# Altium footprint library controller_V1.01.PcbLib: 68 footprints (part 5 of 5)
Each footprint in its own frame and in the unit in brackets; x right, y up, seen from the top. Pads: shape width x height; smd on the part's side, far side on the other; paste and mask are expansions set on the pad; w line width, h text height; cw(c..) or ccw(c..) is an arc to the next point about the centre after c.
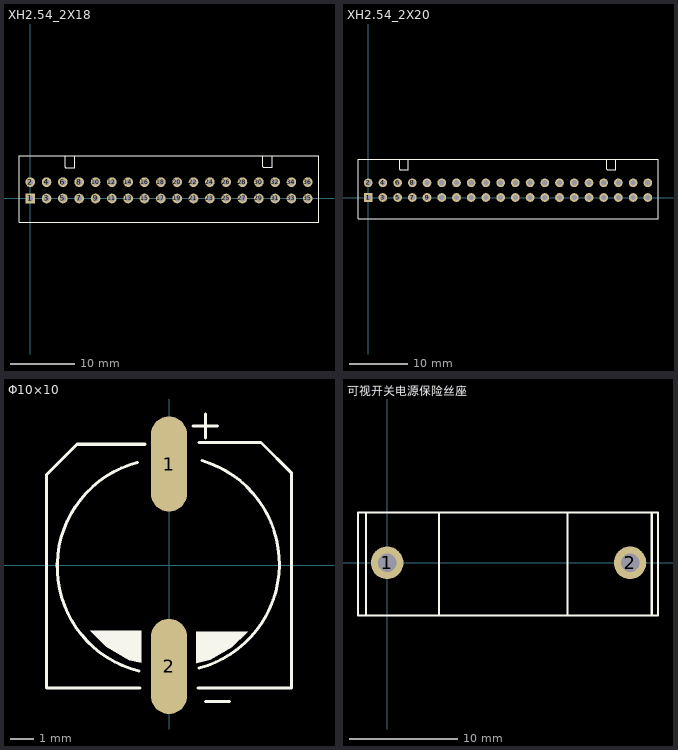
[diagram p4: the footprints below, top view; thin cyan lines are the x and y axes]

## XH2.54_2X18 [mm]
pads (36):
  rect 1.5x1.5 hole 0.9: 1(0,0)
  round 1.5 hole 0.9: 2(0,2.54) 3(2.54,0) 4(2.54,2.54) 5(5.08,0) 6(5.08,2.54) 7(7.62,0) 8(7.62,2.54) 9(10.16,0) 10(10.16,2.54) 11(12.7,0) 12(12.7,2.54) 13(15.24,0) 14(15.24,2.54) 15(17.78,0) 16(17.78,2.54) 17(20.32,0) 18(20.32,2.54) 19(22.86,0) 20(22.86,2.54) 21(25.4,0) 22(25.4,2.54) 23(27.94,0) 24(27.94,2.54) 25(30.48,0) 26(30.48,2.54) 27(33.02,0) 28(33.02,2.54) 29(35.56,0) 30(35.56,2.54) 31(38.1,0) 32(38.1,2.54) 33(40.64,0) 34(40.64,2.54) 35(43.18,0) 36(43.18,2.54)
Top Overlay:
  lines w0.127: 5.41,6.553 5.41,4.851 5.461,4.801 6.934,4.801 6.934,6.553 ; 36.17,6.629 36.17,4.928 36.22,4.877 37.694,4.877 37.694,6.629 ; -1.75,-3.68 -1.75,6.62 44.93,6.62 44.93,-3.68 -1.75,-3.68

## XH2.54_2X20 [mm]
pads (40):
  rect 1.5x1.5 hole 0.9: 1(0,0)
  round 1.5 hole 0.9: 2(0,2.54) 3(2.54,0) 4(2.54,2.54) 5(5.08,0) 6(5.08,2.54) 7(7.62,0) 8(7.62,2.54) 9(10.16,0) 10(10.16,2.54) 11(12.7,0) 12(12.7,2.54) 13(15.24,0) 14(15.24,2.54) 15(17.78,0) 16(17.78,2.54) 17(20.32,0) 18(20.32,2.54) 19(22.86,0) 20(22.86,2.54) 21(25.4,0) 22(25.4,2.54) 23(27.94,0) 24(27.94,2.54) 25(30.48,0) 26(30.48,2.54) 27(33.02,0) 28(33.02,2.54) 29(35.56,0) 30(35.56,2.54) 31(38.1,0) 32(38.1,2.54) 33(40.64,0) 34(40.64,2.54) 35(43.18,0) 36(43.18,2.54) 37(45.72,0) 38(45.72,2.54) 39(48.26,0) 40(48.26,2.54)
Top Overlay:
  lines w0.127: 5.41,6.553 5.41,4.851 5.461,4.801 6.934,4.801 6.934,6.553 ; 41.199,6.579 41.199,4.877 41.25,4.826 42.723,4.826 42.723,6.579 ; -1.75,-3.68 50.01,-3.68 50.01,6.62 -1.75,6.62 -1.75,-3.68

## Φ10×10 [mm]
pads (2):
  oval 1.524x4 smd: 1(0,4.25) 2(0,-4.25)
Top Overlay:
  region: -1.664,-4 -2.235,-3.429 -1.829,-3.429 -1.156,-4.102
  region: -2.642,-3.429 -2.235,-3.429 -1.664,-4
  region: -2.235,-3.429 -2.642,-3.429 -3.315,-2.756
  region: -1.156,-4.102 -2.502,-2.756 -3.315,-2.756
  region: -1.156,-2.756 -1.156,-4.102 -2.502,-2.756
  region: 1.727,-3.962 2.235,-3.454 1.803,-3.454 1.143,-4.115
  region: 2.642,-3.454 2.235,-3.454 1.727,-3.962
  region: 3.302,-2.794 2.642,-3.454 2.222,-3.454
  region: 1.143,-4.115 2.464,-2.794 3.302,-2.794
  region: 1.143,-2.794 1.143,-4.115 2.464,-2.794
  lines w0.127: -5.15,3.81 -5.15,-5.15 -1.213,-5.15 ; -5.137,3.81 -3.867,5.08 -1.016,5.08 ; -1.33,4.314 ccw(c-0.173,-0.058) -1.27,-4.445 ; 1.016,5.842 2.032,5.842 ; 1.213,-5.15 5.15,-5.15 5.15,3.867 3.867,5.15 1.27,5.15 ; 1.27,-4.318 ccw(c0.113,0.054) 1.389,4.392 ; 1.524,-5.715 2.54,-5.715 ; 1.524,5.334 1.524,6.35

## 可视开关电源保险丝座 [mm]
height 1.55
pads (2):
  round 3 hole 1.7: 1(0,0) 2(22.4,0)
Top Overlay:
  lines w0.2: -1.947,-4.863 -1.947,4.641 ; 4.784,-4.842 4.784,4.62 ; 16.637,-4.842 16.637,4.62 ; 24.405,-4.8 24.405,4.641 ; -2.688,-4.863 -2.688,4.641 24.977,4.641 24.977,-4.863 -2.688,-4.863